# EAGLE library part ZXMD63N03X (library zetex)
DUAL 30V N-CHANNEL ENHANCEMENT MODE MOSFET Source: Data sheet <http://www.diodes.com/datasheets/ZXMD63N03X.pdf>
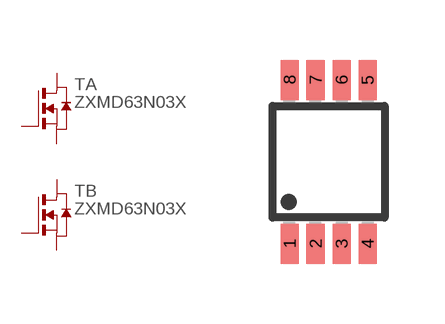
[diagram p17: symbol with the pads of MSOP8; footprint MSOP8]

Designator prefix T; gates A=N_MOSFET B=N_MOSFET

## ZXMD63N03X (OC_FARNELL: unknown; OC_NEWARK: unknown)  [MSOP8]
1  A:S  pas
2  A:G  pas
3  B:S  pas
4  B:G  pas
5  B:D  pas
6  B:D  pas
7  A:D  pas
8  A:D  pas

## Footprint MSOP8 (pad centres in mm)
Micro Small Outline Package
smd 0.45 x 1: 1 -0.975,-2.05; 2 -0.325,-2.05; 3 0.325,-2.05; 4 0.975,-2.05; 5 0.975,2.05; 6 0.325,2.05; 7 -0.325,2.05; 8 -0.975,2.05